# Altium footprint library WCAP-STSC.PcbLib: 6 footprints
Each footprint in its own frame and in the unit in brackets; x right, y up, seen from the top. Pads: shape width x height; smd on the part's side, far side on the other; paste and mask are expansions set on the pad; w line width, h text height; cw(c..) or ccw(c..) is an arc to the next point about the centre after c.
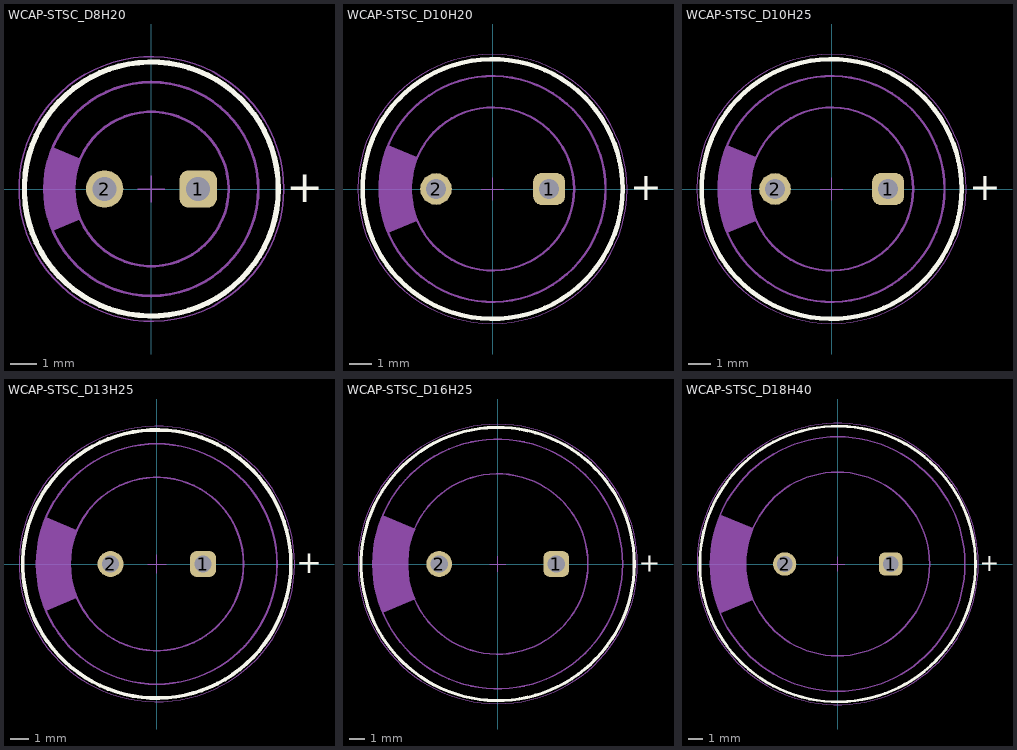
[diagram p0: the footprints below, top view; thin cyan lines are the x and y axes]

## WCAP-STSC_D8H20 [mm] "Supercapacitors, THT, body diameter 8mm"
height 20
pads (2):
  rrect50% 1.4x1.4 hole 0.9: 1(1.75,0)
  round 1.4 hole 0.9: 2(-1.75,0)
Top Overlay:
  circle w0.2: c0,0 r4.75
  text "+" at 5.05,-0.5 h1.22
Top Designator:
  text ".Designator" at -7.498,-0.5 h1.5
Top Component Outline:
  circle w0.1: c0,0 r4
  circle w0.1: c0,0 r2.89
  region: -3.685,-1.557 -3.762,-1.372 -3.881,-0.99 -3.96,-0.598 -4,-0.2 -4,0.2 -3.96,0.598 -3.881,0.99 -3.762,1.372 -3.685,1.557 -2.662,1.125 -2.662,1.124 -2.715,0.99 -2.8,0.714 -2.858,0.431 -2.886,0.144 -2.886,-0.144 -2.858,-0.431 -2.8,-0.714 -2.715,-0.99 -2.662,-1.124 -2.662,-1.125
Top 3D Body:
  circle w0.1: c0,0 r4
  circle w0.1: c0,0 r2.89
  region: -3.685,-1.557 -3.762,-1.372 -3.881,-0.99 -3.96,-0.598 -4,-0.2 -4,0.2 -3.96,0.598 -3.881,0.99 -3.762,1.372 -3.685,1.557 -2.662,1.125 -2.662,1.124 -2.715,0.99 -2.8,0.714 -2.858,0.431 -2.886,0.144 -2.886,-0.144 -2.858,-0.431 -2.8,-0.714 -2.715,-0.99 -2.662,-1.124 -2.662,-1.125
Top Courtyard:
  circle w0.05: c0,0 r4.95
  lines w0.05: -0.5,0 0.5,0 ; 0,-0.5 0,0.5
3D body "8x20x3.5x0.6.stp": height 20.31, standoff -18.91, extent -3.99,-4 4,3.999

## WCAP-STSC_D10H20 [mm] "Supercapacitors, THT, body diameter 10mm"
height 20
pads (2):
  rrect50% 1.4x1.4 hole 0.9: 1(2.5,0)
  round 1.4 hole 0.9: 2(-2.5,0)
Top Overlay:
  circle w0.2: c0,0 r5.75
  text "+" at 6.1,-0.5 h1.22
Top Designator:
  text ".Designator" at -7.498,-0.5 h1.5
Top Component Outline:
  circle w0.1: c0,0 r3.61
  circle w0.1: c0,0 r5
  region: -4.607,-1.944 -3.323,-1.41 -3.324,-1.409 -3.39,-1.24 -3.497,-0.895 -3.569,-0.541 -3.605,-0.181 -3.605,0.181 -3.569,0.541 -3.497,0.895 -3.39,1.24 -3.324,1.409 -3.323,1.41 -4.607,1.944 -4.704,1.714 -4.851,1.237 -4.95,0.747 -5,0.25 -5,-0.25 -4.95,-0.747 -4.851,-1.237 -4.704,-1.714
Top 3D Body:
  circle w0.1: c0,0 r3.61
  circle w0.1: c0,0 r5
  region: -4.607,-1.944 -3.323,-1.41 -3.324,-1.409 -3.39,-1.24 -3.497,-0.895 -3.569,-0.541 -3.605,-0.181 -3.605,0.181 -3.569,0.541 -3.497,0.895 -3.39,1.24 -3.324,1.409 -3.323,1.41 -4.607,1.944 -4.704,1.714 -4.851,1.237 -4.95,0.747 -5,0.25 -5,-0.25 -4.95,-0.747 -4.851,-1.237 -4.704,-1.714
Top Courtyard:
  circle w0.05: c0,0 r5.95
  lines w0.05: -0.5,0 0.5,0 ; 0,-0.5 0,0.5
3D body "10x20x5x0.6.stp": height 20.31, standoff -18.91, extent -4.99,-5 5,5

## WCAP-STSC_D10H25 [mm] "Supercapacitors, THT, body diameter 10mm"
height 25
pads (2):
  rrect50% 1.4x1.4 hole 0.9: 1(2.5,0)
  round 1.4 hole 0.9: 2(-2.5,0)
Top Overlay:
  circle w0.2: c0,0 r5.75
  text "+" at 6.1,-0.5 h1.22
Top Designator:
  text ".Designator" at -7.498,-0.5 h1.5
Top Component Outline:
  circle w0.1: c0,0 r5
  circle w0.1: c0,0 r3.61
  region: -4.607,-1.944 -3.323,-1.41 -3.324,-1.409 -3.39,-1.24 -3.497,-0.895 -3.569,-0.541 -3.605,-0.181 -3.605,0.181 -3.569,0.541 -3.497,0.895 -3.39,1.24 -3.324,1.409 -3.323,1.41 -4.607,1.944 -4.704,1.714 -4.851,1.237 -4.95,0.747 -5,0.25 -5,-0.25 -4.95,-0.747 -4.851,-1.237 -4.704,-1.714
Top 3D Body:
  circle w0.1: c0,0 r5
  circle w0.1: c0,0 r3.61
  region: -4.607,-1.944 -3.323,-1.41 -3.324,-1.409 -3.39,-1.24 -3.497,-0.895 -3.569,-0.541 -3.605,-0.181 -3.605,0.181 -3.569,0.541 -3.497,0.895 -3.39,1.24 -3.324,1.409 -3.323,1.41 -4.607,1.944 -4.704,1.714 -4.851,1.237 -4.95,0.747 -5,0.25 -5,-0.25 -4.95,-0.747 -4.851,-1.237 -4.704,-1.714
Top Courtyard:
  circle w0.05: c0,0 r5.95
  lines w0.05: -0.5,0 0.5,0 ; 0,-0.5 0,0.5
3D body "10x25x5x0.6.stp": height 25.31, standoff -18.91, extent -4.99,-5 5,4.997

## WCAP-STSC_D13H25 [mm] "Supercapacitors, THT, body diameter 13mm"
height 25
pads (2):
  rrect50% 1.4x1.4 hole 0.9: 1(2.5,0)
  round 1.4 hole 0.9: 2(-2.5,0)
Top Overlay:
  circle w0.2: c0,0 r7.25
  text "+" at 7.55,-0.5 h1.22
Top Designator:
  text ".Designator" at -7.498,-0.5 h1.5
Top Component Outline:
  circle w0.1: c0,0 r6.5
  circle w0.1: c0,0 r4.69
  region: -5.99,-2.525 -6.116,-2.226 -6.307,-1.606 -6.435,-0.97 -6.5,-0.324 -6.5,0.324 -6.435,0.97 -6.307,1.606 -6.116,2.226 -5.99,2.525 -4.32,1.826 -4.321,1.824 -4.406,1.606 -4.545,1.159 -4.637,0.7 -4.684,0.234 -4.684,-0.234 -4.637,-0.7 -4.545,-1.159 -4.406,-1.606 -4.321,-1.824 -4.32,-1.826
Top 3D Body:
  circle w0.1: c0,0 r6.5
  circle w0.1: c0,0 r4.69
  region: -5.99,-2.525 -6.116,-2.226 -6.307,-1.606 -6.435,-0.97 -6.5,-0.324 -6.5,0.324 -6.435,0.97 -6.307,1.606 -6.116,2.226 -5.99,2.525 -4.32,1.826 -4.321,1.824 -4.406,1.606 -4.545,1.159 -4.637,0.7 -4.684,0.234 -4.684,-0.234 -4.637,-0.7 -4.545,-1.159 -4.406,-1.606 -4.321,-1.824 -4.32,-1.826
Top Courtyard:
  circle w0.05: c0,0 r7.45
  lines w0.05: -0.5,0 0.5,0 ; 0,-0.5 0,0.5
3D body "13x25x5x0.6.stp": height 25.09, standoff -18.91, extent -6.49,-6.5 6.5,6.5

## WCAP-STSC_D16H25 [mm] "Supercapacitors, THT, body diameter 16mm"
height 25
pads (2):
  rrect50% 1.65x1.65 hole 1.1: 1(3.75,0)
  round 1.65 hole 1.1: 2(-3.75,0)
Top Overlay:
  circle w0.2: c0,0 r8.75
  text "+" at 9.05,-0.5 h1.22
Top Designator:
  text ".Designator" at -7.498,-0.5 h1.5
Top Component Outline:
  circle w0.1: c0,0 r8
  circle w0.1: c0,0 r5.78
  region: -7.369,-3.114 -5.324,-2.25 -5.325,-2.248 -5.431,-1.979 -5.601,-1.428 -5.715,-0.863 -5.773,-0.288 -5.773,0.288 -5.715,0.863 -5.601,1.428 -5.431,1.979 -5.325,2.248 -5.324,2.25 -7.369,3.114 -7.525,2.745 -7.761,1.98 -7.92,1.196 -8,0.4 -8,-0.4 -7.92,-1.196 -7.761,-1.98 -7.525,-2.745
Top 3D Body:
  circle w0.1: c0,0 r8
  circle w0.1: c0,0 r5.78
  region: -7.369,-3.114 -5.324,-2.25 -5.325,-2.248 -5.431,-1.979 -5.601,-1.428 -5.715,-0.863 -5.773,-0.288 -5.773,0.288 -5.715,0.863 -5.601,1.428 -5.431,1.979 -5.325,2.248 -5.324,2.25 -7.369,3.114 -7.525,2.745 -7.761,1.98 -7.92,1.196 -8,0.4 -8,-0.4 -7.92,-1.196 -7.761,-1.98 -7.525,-2.745
Top Courtyard:
  circle w0.05: c0,0 r8.95
  lines w0.05: -0.5,0 0.5,0 ; 0,-0.5 0,0.5
3D body "16x25x7.5x0.8.stp": height 25.09, standoff -18.91, extent -7.99,-8 8,8

## WCAP-STSC_D18H40 [mm] "Supercapacitors, THT, body diameter 18mm"
height 40
pads (2):
  rrect50% 1.65x1.65 hole 1.1: 1(3.75,0)
  round 1.65 hole 1.1: 2(-3.75,0)
Top Overlay:
  circle w0.2: c0,0 r9.75
  text "+" at 10.05,-0.5 h1.22
Top Designator:
  text ".Designator" at -7.498,-0.5 h1.5
Top Component Outline:
  circle w0.1: c0,0 r9
  circle w0.1: c0,0 r6.5
  region: -8.291,-3.501 -5.985,-2.536 -5.986,-2.533 -6.105,-2.23 -6.298,-1.609 -6.427,-0.972 -6.492,-0.325 -6.492,0.325 -6.427,0.972 -6.298,1.609 -6.105,2.23 -5.986,2.533 -5.985,2.536 -8.291,3.501 -8.466,3.086 -8.732,2.227 -8.91,1.345 -9,0.45 -9,-0.45 -8.91,-1.345 -8.732,-2.227 -8.466,-3.086
Top 3D Body:
  circle w0.1: c0,0 r9
  circle w0.1: c0,0 r6.5
  region: -8.291,-3.501 -5.985,-2.536 -5.986,-2.533 -6.105,-2.23 -6.298,-1.609 -6.427,-0.972 -6.492,-0.325 -6.492,0.325 -6.427,0.972 -6.298,1.609 -6.105,2.23 -5.986,2.533 -5.985,2.536 -8.291,3.501 -8.466,3.086 -8.732,2.227 -8.91,1.345 -9,0.45 -9,-0.45 -8.91,-1.345 -8.732,-2.227 -8.466,-3.086
Top Courtyard:
  circle w0.05: c0,0 r9.95
  lines w0.05: -0.5,0 0.5,0 ; 0,-0.5 0,0.5
3D body "18x40x7.5x0.8.stp": height 40.09, standoff -18.91, extent -8.99,-8.999 9,8.999